# Altium footprint library Components.PcbLib: 20 footprints (part 1 of 2)
Each footprint in its own frame and in the unit in brackets; x right, y up, seen from the top. Pads: shape width x height; smd on the part's side, far side on the other; paste and mask are expansions set on the pad; w line width, h text height; cw(c..) or ccw(c..) is an arc to the next point about the centre after c.
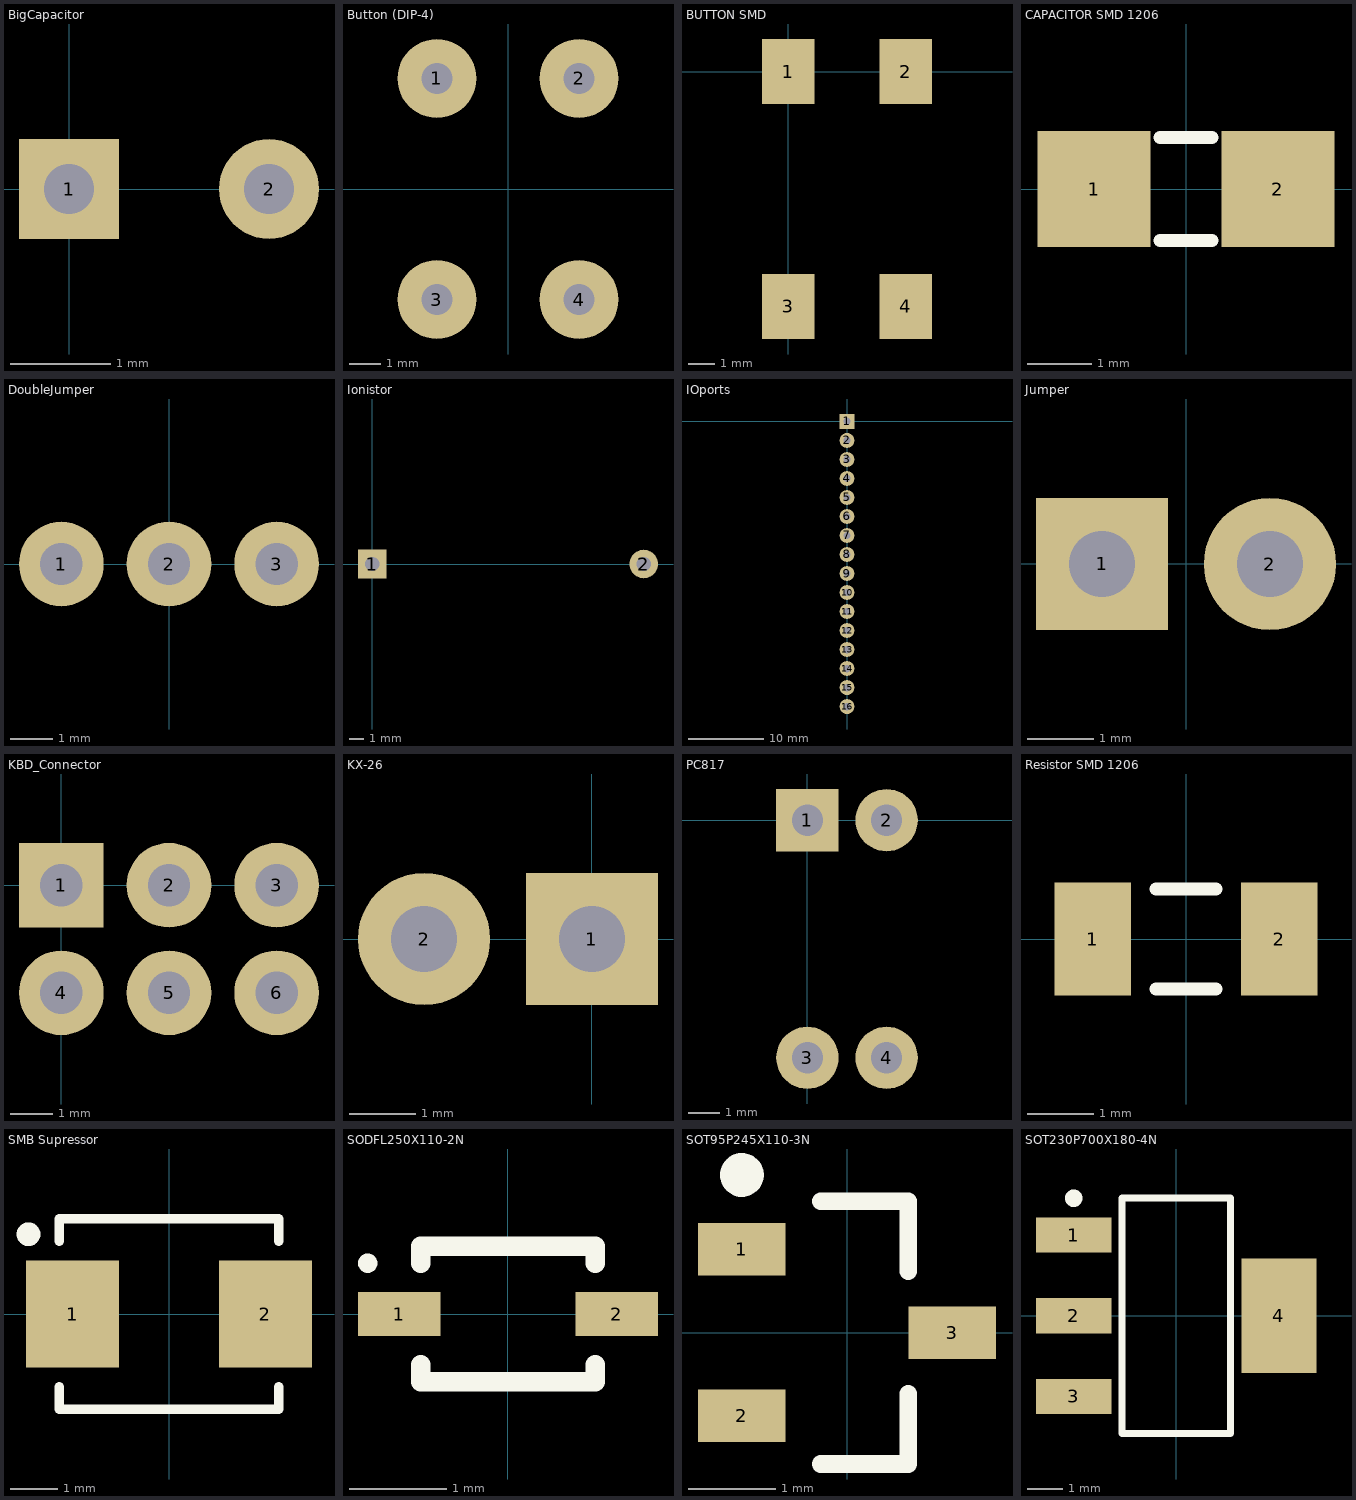
[diagram p0: the footprints below, top view; thin cyan lines are the x and y axes]

## BigCapacitor [mm]
height 6
pads (2):
  rect 1x1 hole 0.5 unplated: 1(0,0)
  round 1 hole 0.5 unplated: 2(2,0)
3D body: height 5.2, standoff 0.2, extent -1.497,2.4 3.5,13.4

## Button (DIP-4) [mil]
height 157.48
pads (4):
  round 100 hole 39.37 unplated: 1(-90,140) 2(90,140) 3(-90,-140) 4(90,-140)
3D body "PTS645.SLDPRT": height 255.91, standoff -78.74, extent -118.11,-147.61 118.11,147.6

## BUTTON SMD [mm]
pads (4):
  rect 2x2.5 smd: 1(0,0) 2(4.5,0) 3(0,-9) 4(4.5,-9)
3D body "Push Button SMD.STEP": height 5.15, standoff 0.04, extent -0.725,-9.45 5.275,0.55

## CAPACITOR SMD 1206 [mm]
height 1.85
pads (2):
  rect 1.75x1.8 smd: 1(-1.425,0) 2(1.425,0)
Top Overlay:
  lines w0.2: -0.4,-0.8 0.4,-0.8 ; -0.4,0.8 0.4,0.8
3D body "CAPACITOR SMD 1206.step": height 1.85, standoff 0, extent -1.7,-0.9 1.7,0.9

## DoubleJumper [mm]
height 8
pads (3):
  round 2 hole 1 unplated: 1(-2.54,0) 2(0,0) 3(2.54,0)
3D body "User Library-PinHeaderX3.STEP": height 9.01, standoff -3.18, extent -3.81,-1.371 3.81,1.549

## Ionistor [mm]
height 5
pads (2):
  rect 2x2 hole 1 unplated: 1(0,0)
  round 2 hole 1 unplated: 2(19,0)
3D body: height 5, standoff 0, extent 0,-9.497 19,9.498

## IOports [mm]
height 8
pads (16):
  rect 2x2 hole 1 unplated: 1(0,0)
  round 2 hole 1 unplated: 2(0,-2.54) 3(0,-5.08) 4(0,-7.62) 5(0,-10.16) 6(0,-12.7) 7(0,-15.24) 8(0,-17.78) 9(0,-20.32) 10(0,-22.86) 11(0,-25.4) 12(0,-27.94) 13(0,-30.48) 14(0,-33.02) 15(0,-35.56) 16(0,-38.1)
3D body "User Library-Single Pin Header.STEP": height 8.48, standoff -2.31, extent -1.27,-1.27 1.27,1.27
3D body "User Library-Single Pin Header.STEP": height 8.48, standoff -2.31, extent -1.27,-3.81 1.27,-1.27
3D body "User Library-Single Pin Header.STEP": height 8.48, standoff -2.31, extent -1.27,-6.35 1.27,-3.81
3D body "User Library-Single Pin Header.STEP": height 8.48, standoff -2.31, extent -1.27,-8.89 1.27,-6.35
3D body "User Library-Single Pin Header.STEP": height 8.48, standoff -2.31, extent -1.27,-11.43 1.27,-8.89
3D body "User Library-Single Pin Header.STEP": height 8.48, standoff -2.31, extent -1.27,-13.97 1.27,-11.43
3D body "User Library-Single Pin Header.STEP": height 8.48, standoff -2.31, extent -1.27,-16.51 1.27,-13.97
3D body "User Library-Single Pin Header.STEP": height 8.48, standoff -2.31, extent -1.27,-19.05 1.27,-16.51
3D body "User Library-Single Pin Header.STEP": height 8.48, standoff -2.31, extent -1.27,-21.59 1.27,-19.05
3D body "User Library-Single Pin Header.STEP": height 8.48, standoff -2.31, extent -1.27,-24.13 1.27,-21.59
3D body "User Library-Single Pin Header.STEP": height 8.48, standoff -2.31, extent -1.27,-26.67 1.27,-24.13
3D body "User Library-Single Pin Header.STEP": height 8.48, standoff -2.31, extent -1.27,-29.21 1.27,-26.67
3D body "User Library-Single Pin Header.STEP": height 8.48, standoff -2.31, extent -1.27,-31.75 1.27,-29.21
3D body "User Library-Single Pin Header.STEP": height 8.48, standoff -2.31, extent -1.27,-34.29 1.27,-31.75
3D body "User Library-Single Pin Header.STEP": height 8.48, standoff -2.31, extent -1.27,-36.83 1.27,-34.29
3D body "User Library-Single Pin Header.STEP": height 8.48, standoff -2.31, extent -1.27,-39.37 1.27,-36.83

## Jumper [mm]
height 8
pads (2):
  rect 2x2 hole 1 unplated: 1(-1.27,0)
  round 2 hole 1 unplated: 2(1.27,0)
3D body "Jumper.STEP": height 8.75, standoff -2.25, extent -2.54,-1.25 2.54,1.25

## KBD_Connector [mm]
height 8
pads (6):
  rect 2x2 hole 1 unplated: 1(0,0)
  round 2 hole 1 unplated: 2(2.54,0) 3(5.08,0) 4(0,-2.54) 5(2.54,-2.54) 6(5.08,-2.54)
3D body "SinglePinHeader.step": height 7.99, standoff -2.81, extent -1.27,-3.81 1.27,-1.27
3D body "SinglePinHeader.step": height 7.99, standoff -2.81, extent 1.27,-3.81 3.81,-1.27
3D body "SinglePinHeader.step": height 7.99, standoff -2.81, extent 3.81,-3.81 6.35,-1.27
3D body "SinglePinHeader.step": height 7.99, standoff -2.81, extent 3.81,-1.27 6.35,1.27
3D body "SinglePinHeader.step": height 7.99, standoff -2.81, extent 1.27,-1.27 3.81,1.27
3D body "SinglePinHeader.step": height 7.99, standoff -2.81, extent -1.27,-1.27 1.27,1.27

## KX-26 [mm]
height 2
pads (2):
  rect 2x2 hole 1 unplated: 1(0,0)
  round 2 hole 1 unplated: 2(-2.54,0)
3D body "KX-26.STEP": height 2.5, standoff -1.5, extent -2.27,-7.016 -0.27,0.124

## PC817 [mm]
pads (4):
  rect 2x2 hole 1 unplated: 1(0,0)
  round 2 hole 1 unplated: 2(2.54,0) 3(0,-7.62) 4(2.54,-7.62)
3D body "PC817-DIP4.STEP": height 3.75, standoff -2.55, extent -1.027,-7.745 3.567,0.125

## Resistor SMD 1206 [mm] "Chip Resistor, 2-Leads, Body 3,10x1,55mm, IPC Medium Density"
height 0.65
pads (2):
  rect 1.15x1.7 smd: 1(-1.4,0) 2(1.4,0)
Top Overlay:
  lines w0.2: -0.45,-0.75 0.45,-0.75 ; -0.45,0.75 0.45,0.75
3D body "Resistor SMD 1206.step": height 0.65, standoff 0, extent -1.625,-0.85 1.625,0.85

## SMB Supressor [mm] "SODFL, 2-Leads, Body 3,63x5,35mm, IPC Medium Density"
height 2.45
pads (2):
  rect 1.95x2.25 smd: 1(-2.025,0) 2(2.025,0)
Top Overlay:
  circle w0.25: c-2.95,1.675 r0.125
  lines w0.2: -2.3,-1.525 -2.3,-2 2.3,-2 2.3,-1.525 ; -2.3,1.525 -2.3,2 2.3,2 2.3,1.525
3D body "SMB Supressor.step": height 2.45, standoff 0, extent -2.675,-1.975 2.675,1.975

## SODFL250X110-2N [mm] "SODFL, 2-Leads, Body 1,25x2,50mm, IPC Medium Density"
height 1.1
pads (2):
  rect 0.85x0.45 smd: 1(-1.125,0) 2(1.125,0)
Top Overlay:
  circle w0.1: c-1.45,0.525 r0.05
  lines w0.2: -0.9,-0.525 -0.9,-0.7 0.9,-0.7 0.9,-0.525 ; -0.9,0.525 -0.9,0.7 0.9,0.7 0.9,0.525
3D body "SODFL250X110-2N.step": height 1.1, standoff 0, extent -1.25,-0.675 1.25,0.675

## SOT95P245X110-3N [mm] "SOT23, 3-Leads, Body 2,90x2,45mm, Pitch 0,95mm, IPC Medium Density"
height 1.1
pads (3):
  rect 1x0.6 smd: 1(-1.2,0.95) 2(-1.2,-0.95) 3(1.2,0)
Top Overlay:
  circle w0.25: c-1.2,1.8 r0.125
  lines w0.2: -0.3,-1.5 0.7,-1.5 0.7,-0.7 ; -0.3,1.5 0.7,1.5 0.7,0.7
3D body "SOT95P245X110-3N.step": height 1.1, standoff 0, extent -1.3,-1.5 1.3,1.5

## SOT230P700X180-4N [mm] "SOT223, 4-Leads, Body 6,50x7,00mm (avg), Pitch 2,30mm, IPC Medium Density"
height 1.8
pads (4):
  rect 2.15x1 smd: 1(-2.925,2.3) 2(-2.925,0) 3(-2.925,-2.3)
  rect 2.15x3.25 smd: 4(2.925,0)
Top Overlay:
  circle w0.25: c-2.925,3.35 r0.125
  lines w0.2: -1.55,-3.35 1.55,-3.35 1.55,3.35 -1.55,3.35 -1.55,-3.35
3D body "SOT230P700X180-4N.step": height 1.8, standoff 0, extent -3.5,-3.35 3.5,3.35